# EAGLE library part 4611X-101-103LF (library Shell2013 (1))
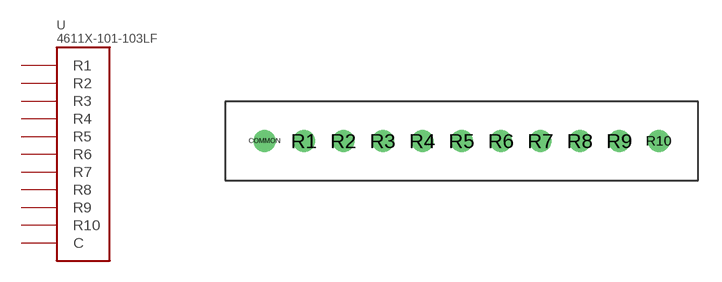
[diagram p6: symbol with the pads of RESISTOR_ARRAY_10R; footprint RESISTOR_ARRAY_10R]

Designator prefix -

## 4611X-101-103LF  [RESISTOR_ARRAY_10R]
COMMON  C
R1  R1
R2  R2
R3  R3
R4  R4
R5  R5
R6  R6
R7  R7
R8  R8
R9  R9
R10  R10

## Footprint RESISTOR_ARRAY_10R (pad centres in mm)
drill 0.8 pad 1.422: COMMON 0,0; R1 2.54,0; R2 5.08,0; R3 7.62,0; R4 10.16,0; R5 12.7,0; R6 15.24,0; R7 17.78,0; R8 20.32,0; R9 22.86,0; R10 25.4,0